# Altium schematic symbol library E33-VT05.SchLib: 1 symbol
Pins are listed as number, name and electrical type; pins without a type are passive.

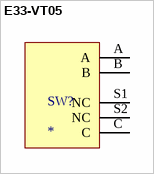
[diagram p0: symbol E33-VT05]

## E33-VT05
designator SW?
pins: A, B, C, S1 NC, S2 NC